# EAGLE library part LMV614 (library digital_dash)
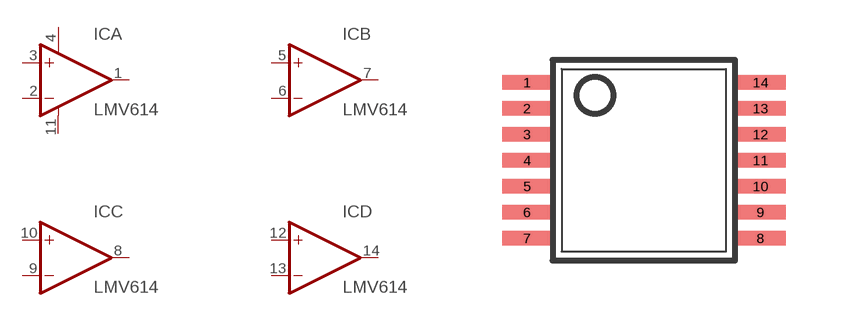
[diagram p9: symbol with the pads of TSSOP14; footprint TSSOP14]

Designator prefix IC; gates A=OP-AMP+- B=OP-AMP C=OP-AMP D=OP-AMP

## LMV614  [TSSOP14]
1  A:OUT  out
2  A:-IN  in
3  A:+IN  in
4  A:V+  pwr
5  B:+IN  in
6  B:-IN  in
7  B:OUT  out
8  C:OUT  out
9  C:-IN  in
10  C:+IN  in
11  A:V-  pwr
12  D:+IN  in
13  D:-IN  in
14  D:OUT  out

## Footprint TSSOP14 (pad centres in mm)
Thin Shrink Small Outline Plastic 14 MAX3223-MAX3243.pdf
smd 1.26 x 0.36: 1 -2.918,1.95; 2 -2.918,1.3; 3 -2.918,0.65; 4 -2.918,0; 5 -2.918,-0.65; 6 -2.918,-1.3; 7 -2.918,-1.95; 8 2.918,-1.95; 9 2.918,-1.3; 10 2.918,-0.65; 11 2.918,0; 12 2.918,0.65; 13 2.918,1.3; 14 2.918,1.95